# EAGLE library part CONVERTER (library converter)
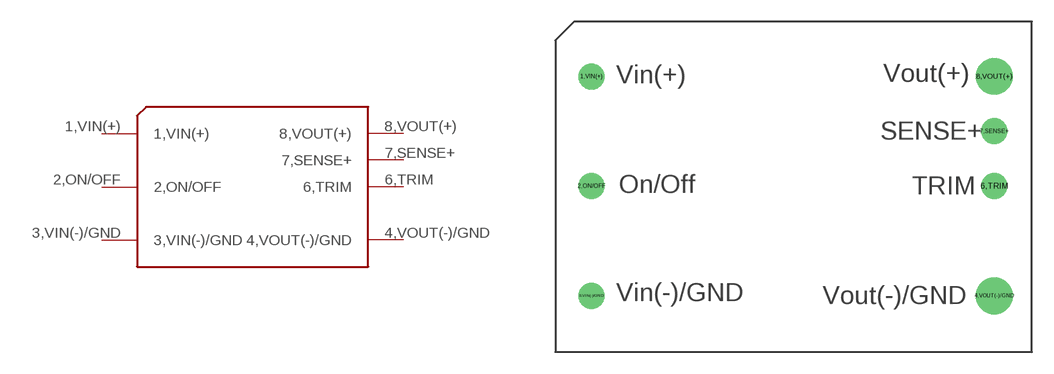
[diagram p0: symbol with the pads of CONVERTER; footprint CONVERTER]

Designator prefix -

## CONVERTER  [CONVERTER]
1,VIN(+)  1,VIN(+)
2,ON/OFF  2,ON/OFF
3,VIN(-)/GND  3,VIN(-)/GND
4,VOUT(-)/GND  4,VOUT(-)/GND
6,TRIM  6,TRIM
7,SENSE+  7,SENSE+
8,VOUT(+)  8,VOUT(+)

## Footprint CONVERTER (pad centres in mm)
drill 1.2: 1,VIN(+) 2.5,19.1; 2,ON/OFF 2.5,11.5; 3,VIN(-)/GND 2.5,3.9; 6,TRIM 30.4,11.5; 7,SENSE+ 30.4,15.3
drill 1.7: 4,VOUT(-)/GND 30.4,3.9; 8,VOUT(+) 30.4,19.1